# Altium schematic symbol library Logicals.SchLib: 11 symbols
Pins are listed as number, name and electrical type; pins without a type are passive.

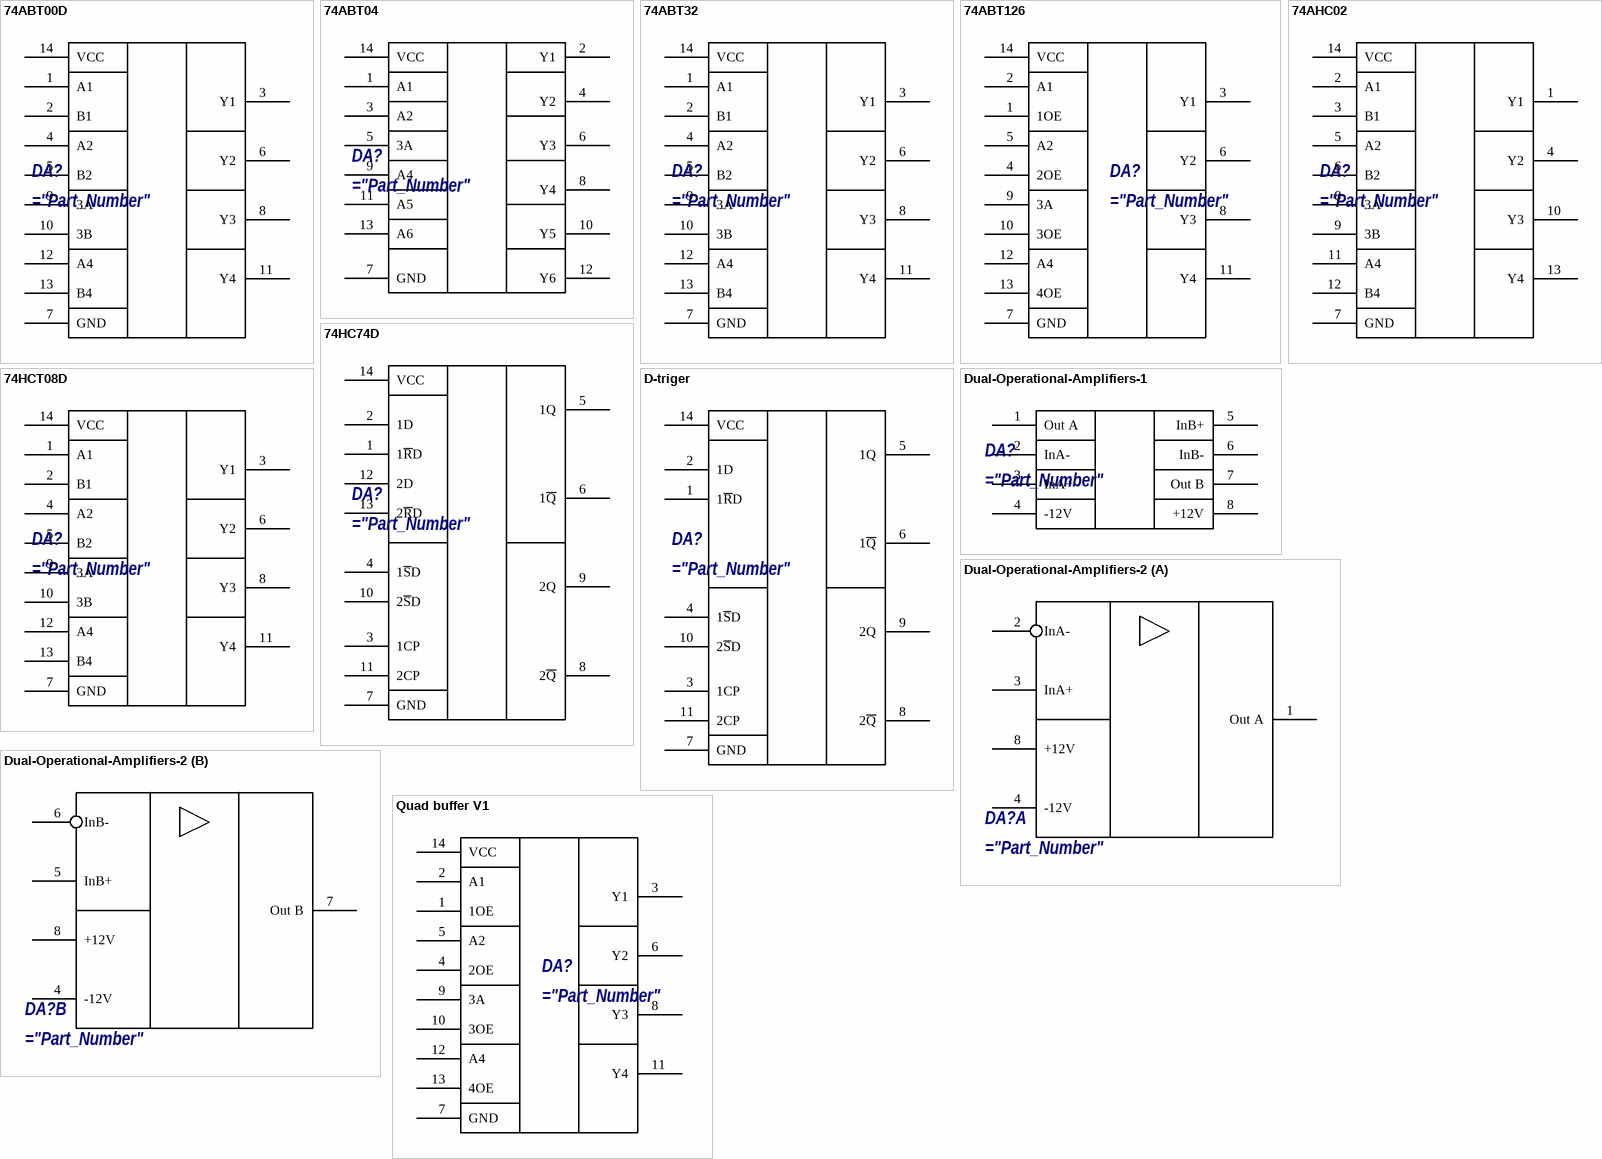
[diagram p0: symbols 74ABT00D to Quad buffer V1]

## 74ABT00D
designator DA?
="Description""Purchase"
ibis 74ABT00_1 (Model Description)
pins: 1 A1, 2 B1, 3 Y1, 4 A2, 5 B2, 6 Y2, 7 GND, 8 Y3, 9 3A, 10 3B, 11 Y4, 12 A4, 13 B4, 14 VCC

## 74ABT04
designator DA?
="Description"
ibis 74ABT04_1 (Model Description)
pins: 1 A1, 2 Y1, 3 A2, 4 Y2, 5 3A, 6 Y3, 7 GND, 8 Y4, 9 A4, 10 Y5, 11 A5, 12 Y6, 13 A6, 14 VCC

## 74ABT32
designator DA?
="Description""Purchase"
ibis 74ABT32_1 (Model Description)
pins: 1 A1, 2 B1, 3 Y1, 4 A2, 5 B2, 6 Y2, 7 GND, 8 Y3, 9 3A, 10 3B, 11 Y4, 12 A4, 13 B4, 14 VCC

## 74ABT126
designator DA?
="Description""Purchase"
ibis 74ABT126_1 (Model Description)
pins: 1 1OE, 2 A1, 3 Y1, 4 2OE, 5 A2, 6 Y2, 7 GND, 8 Y3, 9 3A, 10 3OE, 11 Y4, 12 A4, 13 4OE, 14 VCC

## 74AHC02
designator DA?
="Purchase"
pins: 1 Y1, 2 A1, 3 B1, 4 Y2, 5 A2, 6 B2, 7 GND, 8 3A, 9 3B, 10 Y3, 11 A4, 12 B4, 13 Y4, 14 VCC

## 74HC74D
designator DA?
="Description""Purchase"
ibis 74HC74_D (Model Description)
pins: 1 1~{R}D, 2 1D, 3 1CP, 4 1~{S}D, 5 1Q, 6 1~{Q}, 7 GND, 8 2~{Q}, 9 2Q, 10 2~{S}D, 11 2CP, 12 2D, 13 2~{R}D, 14 VCC

## 74HCT08D
designator DA?
="Description""Purchase"
pins: 1 A1, 2 B1, 3 Y1, 4 A2, 5 B2, 6 Y2, 7 GND, 8 Y3, 9 3A, 10 3B, 11 Y4, 12 A4, 13 B4, 14 VCC

## D-triger
designator DA?
="Description""Purchase"
pins: 1 1~{R}D, 2 1D, 3 1CP, 4 1~{S}D, 5 1Q, 6 1~{Q}, 7 GND, 8 2~{Q}, 9 2Q, 10 2~{S}D, 11 2CP, 14 VCC

## Dual-Operational-Amplifiers-1
designator DA?
="Purchase"
pins: 1 Out A, 2 InA-, 3 InA+, 4 -12V, 5 InB+, 6 InB-, 7 Out B, 8 +12V

## Dual-Operational-Amplifiers-2
designator DA?
="Purchase"
part A pins: 1 Out A, 2 InA-, 3 InA+, 4 -12V, 8 +12V
part B pins: 4 -12V, 5 InB+, 6 InB-, 7 Out B, 8 +12V

## Quad buffer V1
designator DA?
="Description""Purchase"
ibis 74ABT126_1 (Model Description)
pins: 1 1OE, 2 A1, 3 Y1, 4 2OE, 5 A2, 6 Y2, 7 GND, 8 Y3, 9 3A, 10 3OE, 11 Y4, 12 A4, 13 4OE, 14 VCC